# Altium schematic symbol library HSDL3201.SchLib: 1 symbol
Pins are listed as number, name and electrical type; pins without a type are passive.

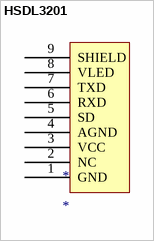
[diagram p0: symbol HSDL3201]

## HSDL3201
designator *
footprint HSDL3201
pins: 1 GND, 2 NC, 3 VCC, 4 AGND, 5 SD, 6 RXD, 7 TXD, 8 VLED, 9 SHIELD